# Altium footprint library SD6030.PcbLib: 1 footprints
Each footprint in its own frame and in the unit in brackets; x right, y up, seen from the top. Pads: shape width x height; smd on the part's side, far side on the other; paste and mask are expansions set on the pad; w line width, h text height; cw(c..) or ccw(c..) is an arc to the next point about the centre after c.
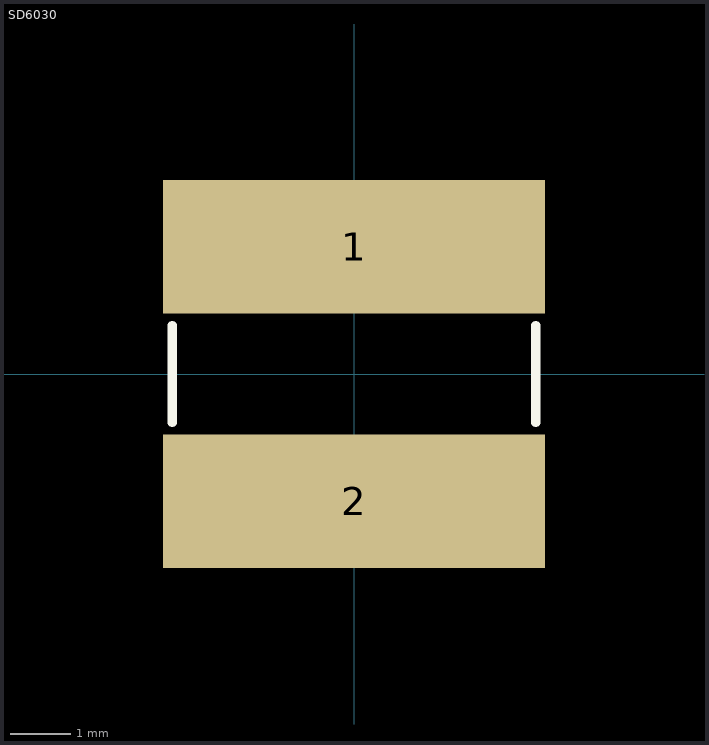
[diagram p0: the footprint, top view; thin cyan lines are the x and y axes]

## SD6030 [mm] "Coiltronics SD6030 Inductor"
height 3
pads (2):
  rect 6.3x2.2 smd mask+0.025: 1(0,2.1) 2(0,-2.1)
Top Overlay:
  lines w0.152: -3,-0.8 -3,0.8 ; 3,-0.8 3,0.8
3D body: height 3, standoff 0, extent -3.001,-3.001 3.001,3.001